# Altium footprint library SHEET23.PcbLib: 47 footprints (part 3 of 3)
Each footprint in its own frame and in the unit in brackets; x right, y up, seen from the top. Pads: shape width x height; smd on the part's side, far side on the other; paste and mask are expansions set on the pad; w line width, h text height; cw(c..) or ccw(c..) is an arc to the next point about the centre after c.
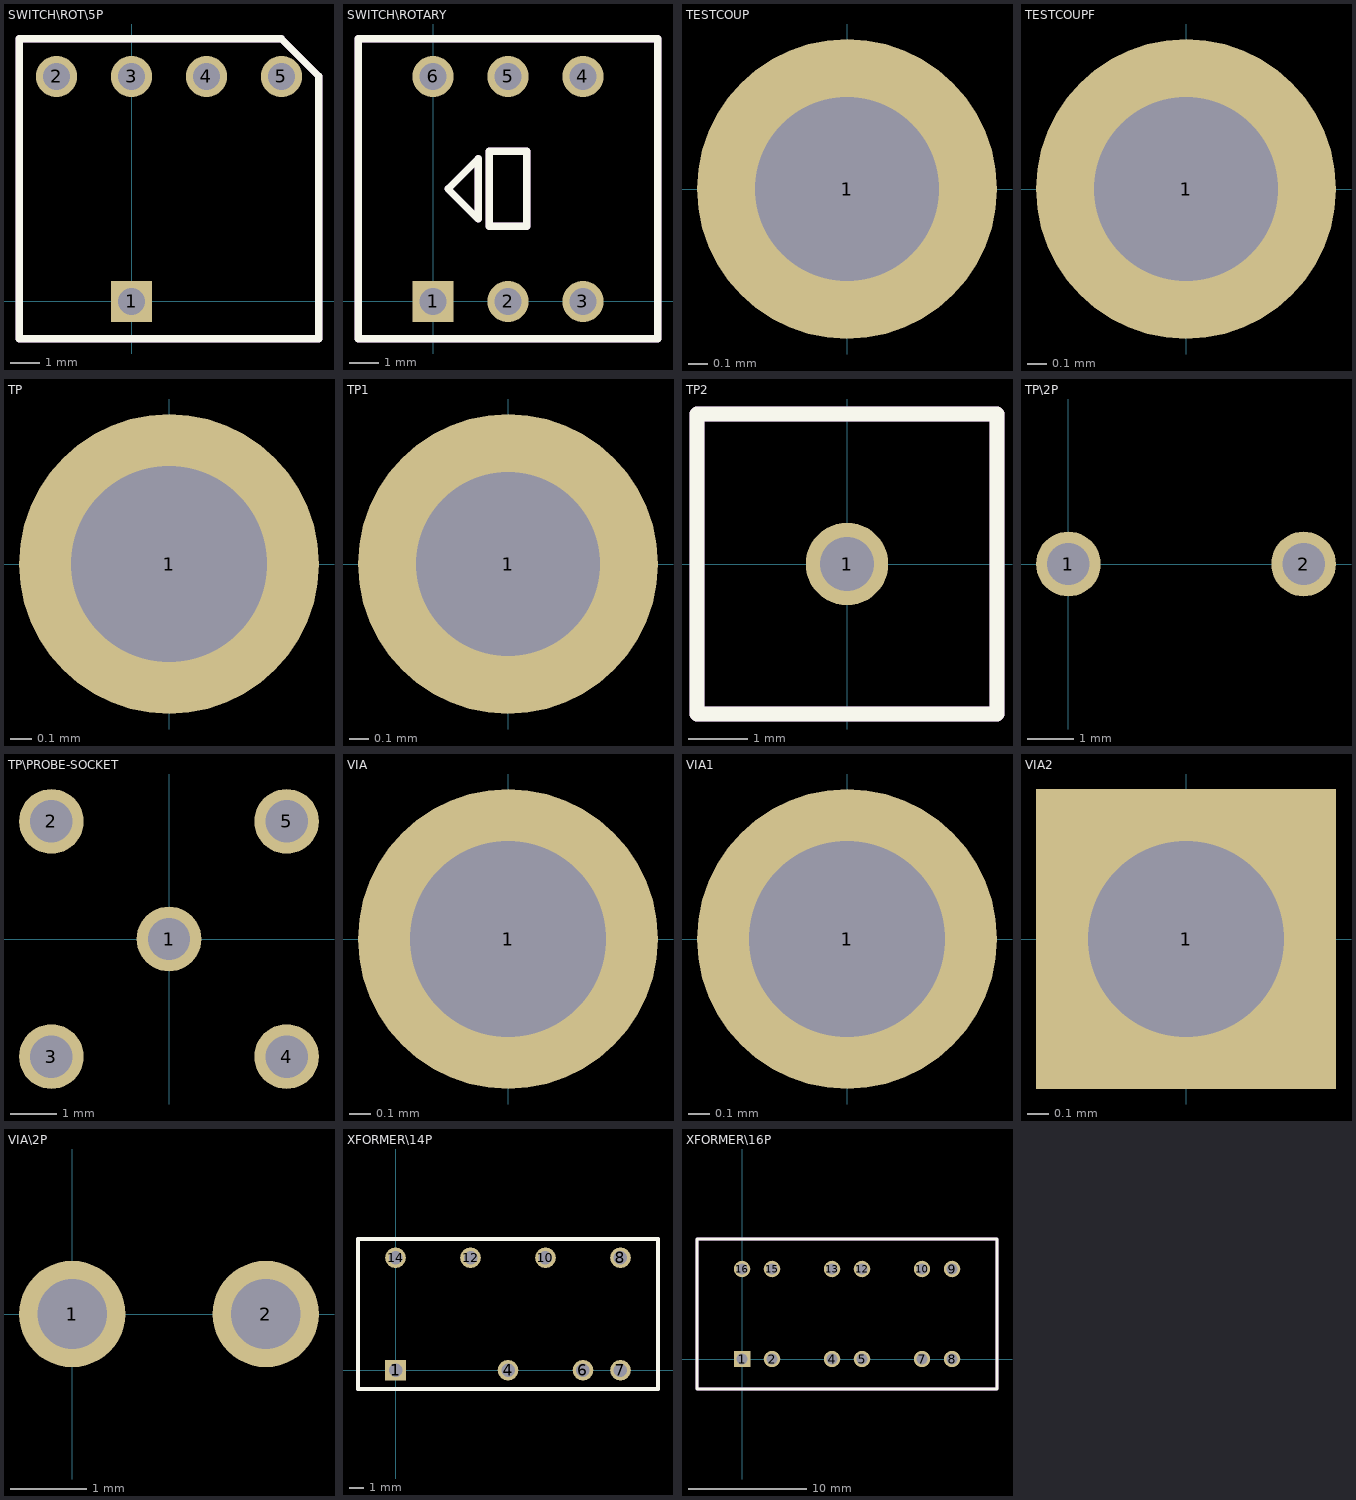
[diagram p2: the footprints below, top view; thin cyan lines are the x and y axes]

## SWITCH\ROT\5P [mil]
pads (5):
  rect 55x55 / inner round 55 / far side round 55 hole 36: 1(0,0)
  round 55 hole 36: 2(-100,300) 3(0,300) 4(100,300) 5(200,300)
Top Overlay:
  lines w10: -150,-50 -150,350 200,350 250,300 250,-50 -150,-50
  text ".Designator" at -50,75 h60
Mechanical 1:
  lines w10: -150,-50 250,-50 250,300 200,350 -150,350 -150,-50
  text ".Designator" at -50,75 h60
  text ".Pattern" at -125,-200 h60

## SWITCH\ROTARY [mil]
pads (6):
  rect 55x55 / inner round 55 / far side round 55 hole 36: 1(0,0)
  round 55 hole 36: 2(100,0) 3(200,0) 4(200,300) 5(100,300) 6(0,300)
Top Overlay:
  lines w10: -100,-50 300,-50 300,350 -100,350 -100,-50 ; 20,150 60,190 60,110 20,150 ; 75,100 75,200 125,200 125,100 75,100
  text ".Designator" at 0,175 h60
Mechanical 1:
  lines w10: -100,-50 -100,350 300,350 300,-50 -100,-50 ; 20,150 60,110 60,190 20,150 ; 75,100 125,100 125,200 75,200 75,100
  text ".Designator" at 50,-50 h60
  text ".Pattern" at 0,-175 h60

## TESTCOUP [mil]
pads (1):
  round 62 hole 38: 1(0,0)
Top Overlay:
  text ".Designator" at 300,275 h60
Mechanical 1:
  text ".Designator" at 325,150 h60
  text ".Pattern" at -125,-200 h60

## TESTCOUPF [mil]
pads (1):
  round 62 hole 38: 1(0,0)
Top Overlay:
  text ".Designator" at -75,100 h60
Mechanical 1:
  text ".Designator" at -75,100 h60
  text ".Pattern" at -125,-175 h60

## TP [mil]
pads (1):
  round 55 hole 36: 1(0,0)
Top Overlay:
  text ".Designator" at 0,350 h60
Mechanical 1:
  text ".Designator" at 0,350 h60
  text ".Pattern" at -50,-200 h60

## TP1 [mil]
pads (1):
  round 62 hole 38: 1(0,0)
Top Overlay:
  text ".Designator" at 0,400 h60
Mechanical 1:
  text ".Designator" at 0,400 h60
  text ".Pattern" at -75,-200 h60

## TP2 [mil]
pads (1):
  round 55 hole 36: 1(0,0)
Top Overlay:
  lines w10: -100,-100 100,-100 100,100 -100,100 -100,-100
  text ".Designator" at -100,75 h60
Mechanical 1:
  lines w10: -100,-100 -100,100 100,100 100,-100 -100,-100
  text ".Designator" at -100,75 h60
  text ".Pattern" at -75,-225 h60

## TP\2P [mil]
pads (2):
  round 55 hole 36: 1(0,0) 2(200,0)
Top Overlay:
  text ".Designator" at 75,325 h60
Mechanical 1:
  text ".Designator" at 125,50 h60
  text ".Pattern" at -25,-200 h60

## TP\PROBE-SOCKET [mil]
pads (5):
  round 55 hole 36: 1(0,0) 2(-100,100) 3(-100,-100) 4(100,-100) 5(100,100)
Top Overlay:
  text ".Designator" at 100,375 h60
Mechanical 1:
  text ".Designator" at 0,125 h60
  text ".Pattern" at -175,-275 h60

## VIA [mil]
pads (1):
  round 55 hole 36: 1(0,0)
Top Overlay:
  text ".Designator" at 175,450 h60
Mechanical 1:
  text ".Designator" at 150,50 h60
  text ".Pattern" at -75,-175 h60

## VIA1 [mil]
pads (1):
  round 55 hole 36: 1(0,0)
Top Overlay:
  text ".Designator" at 0,450 h60
Mechanical 1:
  text ".Designator" at 25,125 h60
  text ".Pattern" at -100,-200 h60

## VIA2 [mil]
pads (1):
  rect 55x55 / inner round 55 / far side round 55 hole 36: 1(0,0)
Top Overlay:
  text ".Designator" at 250,475 h60
Mechanical 1:
  text ".Designator" at 100,225 h60
  text ".Pattern" at -75,-200 h60

## VIA\2P [mil]
pads (2):
  round 55 hole 36: 1(0,0) 2(100,0)
Mechanical 1:
  text ".Pattern" at -100,-175 h60

## XFORMER\14P [mil]
pads (8):
  rect 55x55 / inner round 55 / far side round 55 hole 36: 1(0,0)
  round 55 hole 36: 4(300,0) 6(500,0) 7(600,0) 8(600,300) 10(400,300) 12(200,300) 14(0,300)
Top Overlay:
  lines w10: -100,-50 700,-50 700,350 -100,350 -100,-50
  text ".Designator" at 0,375 h60
Mechanical 1:
  lines w10: -100,-50 -100,350 700,350 700,-50 -100,-50
  text ".Designator" at 0,375 h60
  text ".Pattern" at 0,-175 h60

## XFORMER\16P [mil]
pads (12):
  rect 55x55 / inner round 55 / far side round 55 hole 36: 1(0,0)
  round 55 hole 36: 2(100,0) 4(300,0) 5(400,0) 7(600,0) 8(700,0) 9(700,300) 10(600,300) 12(400,300) 13(300,300) 15(100,300) 16(0,300)
Top Overlay:
  lines w10: -150,-100 850,-100 850,400 -150,400 -150,-100
  text ".Designator" at -100,375 h60
Mechanical 1:
  lines w10: -150,-100 -150,400 850,400 850,-100 -150,-100
  text ".Designator" at -75,175 h60
  text ".Pattern" at 0,-225 h60